# EAGLE library part ?9B-XH (library con-jst-xh)
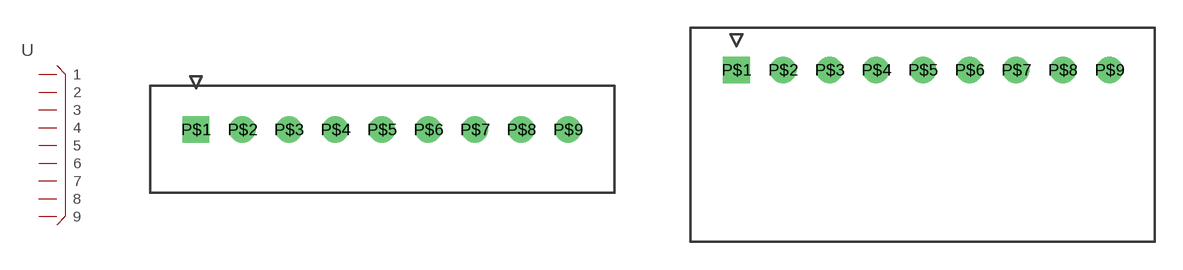
[diagram p4: symbol with the pads of B9B-XH; footprints B9B-XH, S9B-XH]

Designator prefix -

## B9B-XH  [B9B-XH]
P$1  1
P$2  2
P$3  3
P$4  4
P$5  5
P$6  6
P$7  7
P$8  8
P$9  9

## S9B-XH  [S9B-XH]
Pads as for B9B-XH

## Footprint B9B-XH (pad centres in mm)
drill 0.9 pad 1.422 square: P$1 0,0
drill 0.9 pad 1.422: P$2 2.5,0; P$3 5,0; P$4 7.5,0; P$5 10,0; P$6 12.5,0; P$7 15,0; P$8 17.5,0; P$9 20,0

## Footprint S9B-XH (pad centres in mm)
drill 0.9 pad 1.422 square: P$1 0,0
drill 0.9 pad 1.422: P$2 2.5,0; P$3 5,0; P$4 7.5,0; P$5 10,0; P$6 12.5,0; P$7 15,0; P$8 17.5,0; P$9 20,0